# EAGLE library part ST_MP45DT02_MEMS_MIC (library m_audio)
MEMS audio sensor omnidirectional digital microphone Description The MP45DT02 is a compact, low-power, top- port, omnidirectional, digital MEMS microphone. The MP45DT02 is built with a sensing element and an IC interface with stereo capability. The sensing element, capable of detecting acoustic waves, is manufactured using a specialized silicon micromachining process to produce audio sensors. The IC interface is manufactured using a CMOS process that allows designing a dedicated circuit able to provide a digital signal externally in PDM format. The MP45DT02 has an acoustic overload point of 120 dBSPL with a best on the market 61 dB signal-to-noise ratio and -26 dB sensitivity. The MP45DT02 is available in an SMD-compliant metal (M) or plastic package and is guaranteed to operate over an extended temperature range from -30 °C to +85 °C. The MP45DT02’s digital output and package size (1.25 mm thick) make this device the best solution for laptop and portable computing applications. Features Single supply voltage Low power consumption 120 dBSPL acoustic overload point Omnidirectional sensitivity PDM single-bit output with option for stereo configuration HLGA package (SMD-compliant) plastic or metal ECOPACK , RoHS, and “Green” compliant Applications Mobile terminals Laptop and notebook computers Portable media players VoIP Speech recognition A/V eLearning devices Gaming and virtual reality input devices Digital still and video cameras Antitheft systems Data based on ST MP45DT02 datasheet, DocID 018658 Rev 8, 2016-01-26. Added 2016-08-12
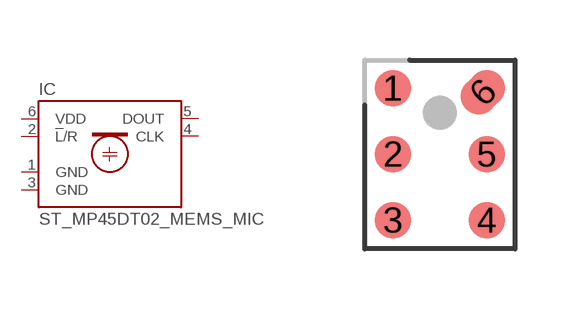
[diagram p0: symbol with the pads of ST_HLGA_6L; footprint ST_HLGA_6L]

Designator prefix IC

## ST_MP45DT02_MEMS_MIC (MANUF: ST; PARTNUM: MP45DT02)  [ST_HLGA_6L]
1  GND  pas
2  !L!/R  pas
3  GND  pas
4  CLK  pas
5  DOUT  pas
6  VDD  pas

## Footprint ST_HLGA_6L (pad centres in mm)
ST HLGA (4.72 x 3.76 mm) 6L (plastic) package Data from ST MP45DT02 datasheet, DocID 018658 Rev 8, 2016-01-26.
smd 0.91 x 0.91: 1 -1.175,1.65; 2 -1.175,0; 3 -1.175,-1.65; 4 1.175,-1.65; 5 1.175,0
smd 0.91 x 1.193 rotated 315: 6 1.075,1.55